# Altium footprint library SOT23-3P102_235X115L52X43N.PcbLib: 1 footprints
Each footprint in its own frame and in the unit in brackets; x right, y up, seen from the top. Pads: shape width x height; smd on the part's side, far side on the other; paste and mask are expansions set on the pad; w line width, h text height; cw(c..) or ccw(c..) is an arc to the next point about the centre after c.
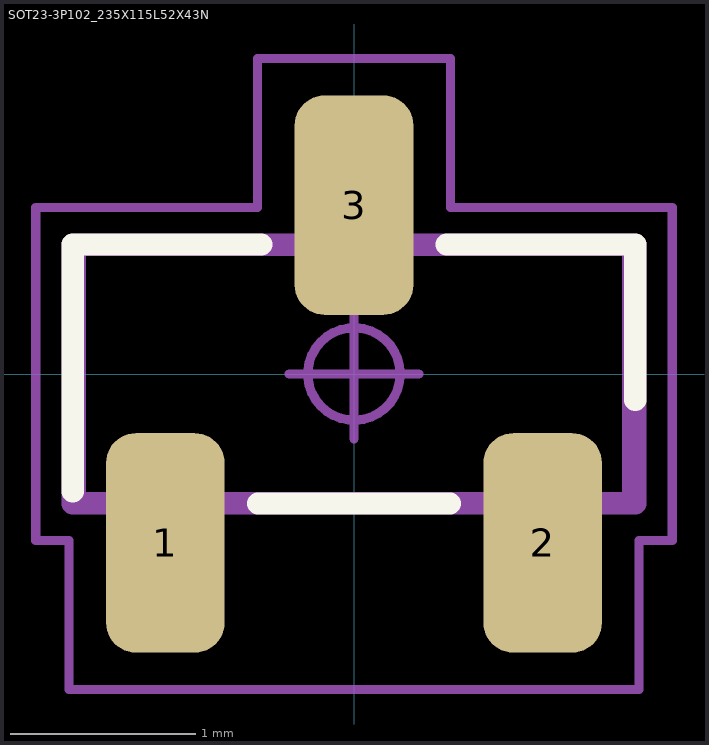
[diagram p0: the footprint, top view; thin cyan lines are the x and y axes]

## SOT23-3P102_235X115L52X43N [mm] "Small Outline Transistor, SOT-23 Type, 1.02 mm pitch; 3 pin, 2.92 mm L X 1.30 mm W X 1.15 mm H Body"
height 1.15
pads (3):
  rrect50% 0.641x1.186 smd: 1(-1.02,-0.913) 2(1.02,-0.913) 3(0,0.913)
Top Overlay:
  lines w0.12: -1.52,-0.635 -1.52,0.7 -0.501,0.7 ; -0.519,-0.7 0.519,-0.7 ; 0.501,0.7 1.52,0.7 1.52,-0.14
Mechanical 3:
  lines w0.12: -1.52,-0.7 1.52,-0.7 1.52,0.7 -1.52,0.7 -1.52,-0.7
Mechanical 5:
  lines w0.025: -1.46,-0.65 1.46,-0.65 1.46,0.65 -1.46,0.65 -1.46,-0.65 ; -1.238,-1.175 -1.238,-0.65 -0.803,-0.65 -0.803,-1.175 -1.238,-1.175 ; -0.218,0.65 -0.218,1.175 0.218,1.175 0.218,0.65 -0.218,0.65 ; 0.803,-1.175 0.803,-0.65 1.238,-0.65 1.238,-1.175 0.803,-1.175
Mechanical 7:
  circle w0.05: c0,0 r0.25
  lines w0.05: -0.35,0 0.35,0 ; 0,-0.35 0,0.35 ; -1.72,-0.9 -1.541,-0.9 -1.541,-1.706 1.541,-1.706 1.541,-0.9 1.72,-0.9 1.72,0.9 0.521,0.9 0.521,1.706 -0.521,1.706 -0.521,0.9 -1.72,0.9 -1.72,-0.9
Mechanical 9:
  text "'.Designator'" at -2.921,2.032 h1.52
3D body "SOT23-3P102_235X115L52X43.STEP": height 1.15, standoff 0, extent -1.46,-1.175 1.46,1.175
3D body: height 3.65, standoff -3.65, extent -1.72,-1.706 1.72,1.706